# EAGLE library part AD7195 (library analog-devices)
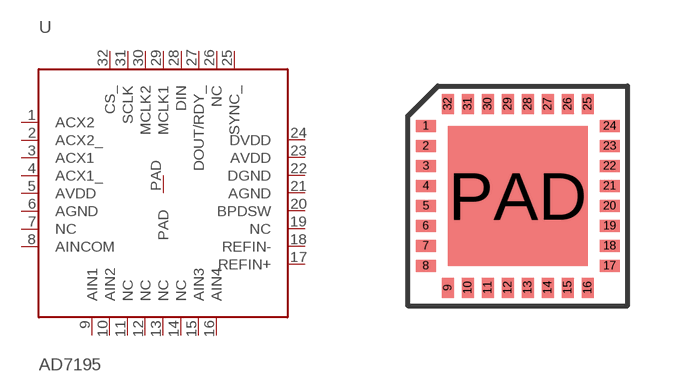
[diagram p35: symbol with the pads of LFCSP32; footprint LFCSP32]

Designator prefix -

## AD7195  [LFCSP32]
1  ACX2
2  ACX2_
3  ACX1
4  ACX1_
5  AVDD
6  AGND
7  NC
8  AINCOM
9  AIN1
10  AIN2
11  NC
12  NC
13  NC
14  NC
15  AIN3
16  AIN4
17  REFIN+
18  REFIN-
19  NC
20  BPDSW
21  AGND
22  DGND
23  AVDD
24  DVDD
25  SYNC_
26  NC
27  DOUT/RDY_
28  DIN
29  MCLK1
30  MCLK2
31  SCLK
32  CS_
PAD  PAD

## Footprint LFCSP32 (pad centres in mm)
smd 0.5 x 0.3: 1 -2.3,1.75; 2 -2.3,1.25; 3 -2.3,0.75; 4 -2.3,0.25; 5 -2.3,-0.25; 6 -2.3,-0.75; 7 -2.3,-1.25; 8 -2.3,-1.75; 17 2.3,-1.75; 18 2.3,-1.25; 19 2.3,-0.75; 20 2.3,-0.25; 21 2.3,0.25; 22 2.3,0.75; 23 2.3,1.25; 24 2.3,1.75
smd 0.3 x 0.5: 9 -1.75,-2.3; 10 -1.25,-2.3; 11 -0.75,-2.3; 12 -0.25,-2.3; 13 0.25,-2.3; 14 0.75,-2.3; 15 1.25,-2.3; 16 1.75,-2.3; 25 1.75,2.3; 26 1.25,2.3; 27 0.75,2.3; 28 0.25,2.3; 29 -0.25,2.3; 30 -0.75,2.3; 31 -1.25,2.3; 32 -1.75,2.3
smd 3.5 x 3.5: PAD 0,0